# Altium integrated library Analog Devices Operational Amplifiers.IntLib: 2102 symbols (part 37 of 70)
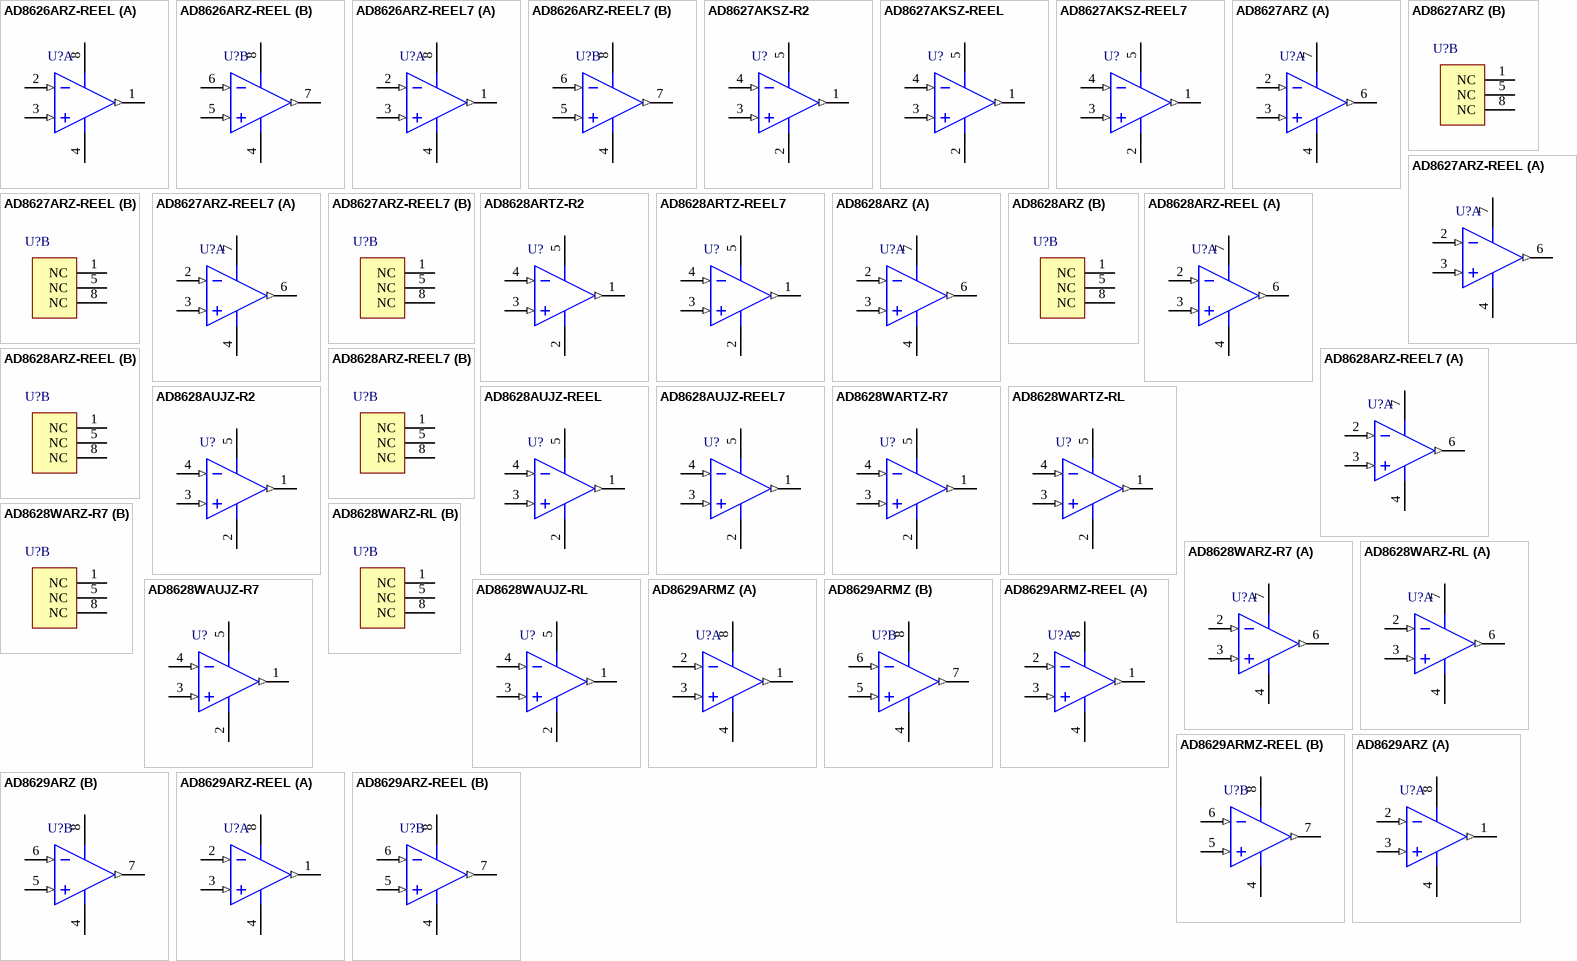
[diagram p150: symbols AD8626ARZ-REEL to AD8629ARZ-REEL]

## AD8626ARZ-REEL
designator U?
Double Channel Very Low Input Bias Current Operational Amplifier, 5 MHz BW, 5 V/us SR, Industrial, 8-pin SOIC (R-8), Reel; Generic Part Number: AD8626; Manufacturer: Analog Devices; PartNumber: AD8626ARZ-REEL; Amplifiers Per Package: 2; Input Bias Current: 250fA; Input Offset Voltage: 50uV; Iq/Amp: 850uA; Slew Rate: 5V/us; Small Signal Bandwidth: 5MHz; V Span Max: 26V; V Span Min: 5V; DatasheetVersion: Rev. E; PackageVersion: 060506-A; PackageReference: R-8; PackageDescription: 8-Pin Standard Small Outline Package, Body 3.9 x 4.9 mm, Pitch 1.27 mm; Supplier 1: Digi-Key; Supplier Part Number 1: AD8626ARZ-REEL-ND; Supplier 2: Newark; Supplier Part Number 2: 59K6987; Mounting Technology: Surface Mount; Code_JEDEC: MS-012-AA; ComponentLink1Description: Manufacturer URL; ComponentLink1URL: http://www.analog.com/en/index.html; ComponentLink2Description: Datasheet; ComponentLink2URL: http://www.analog.com/static/imported-files/data_sheets/AD8625_8626_8627.pdf; ComponentLink3Description: Package Specification; ComponentLink3URL: http://www.analog.com/static/imported-files/packages/PKG_PDF/SOIC_Narrow%20(R)/R_8.pdf
footprint ADI-R-8_N (SOIC, 8-Leads, Body 4.9x3.9mm, Pitch 1.27mm, IPC Medium Density)
footprint ADI-R-8_L (SOIC, 8-Leads, Body 4.9x3.9mm, Pitch 1.27mm, IPC High Density)
footprint ADI-R-8_M (SOIC, 8-Leads, Body 4.9x3.9mm, Pitch 1.27mm, IPC Low Density)
pins on every part: 4 -V (power), 8 +V (power)
part A pins: 1 OUT A (out), 2 -IN A (in), 3 +IN A (in)
part B pins: 5 +IN B (in), 6 -IN B (in), 7 OUT B (out)

## AD8626ARZ-REEL7
designator U?
Double Channel Very Low Input Bias Current Operational Amplifier, 5 MHz BW, 5 V/us SR, Industrial, 8-pin SOIC (R-8), Reel; Generic Part Number: AD8626; Manufacturer: Analog Devices; PartNumber: AD8626ARZ-REEL7; Amplifiers Per Package: 2; Input Bias Current: 250fA; Input Offset Voltage: 50uV; Iq/Amp: 850uA; Slew Rate: 5V/us; Small Signal Bandwidth: 5MHz; V Span Max: 26V; V Span Min: 5V; DatasheetVersion: Rev. E; PackageVersion: 060506-A; PackageReference: R-8; PackageDescription: 8-Pin Standard Small Outline Package, Body 3.9 x 4.9 mm, Pitch 1.27 mm; Supplier 1: Digi-Key; Supplier Part Number 1: AD8626ARZ-REEL7TR-ND; Supplier 2: Digi-Key; Supplier Part Number 2: AD8626ARZ-REEL7CT-ND; Supplier 3: Digi-Key; Supplier Part Number 3: AD8626ARZ-REEL7DKR-ND; Mounting Technology: Surface Mount; Code_JEDEC: MS-012-AA; ComponentLink1Description: Manufacturer URL; ComponentLink1URL: http://www.analog.com/en/index.html; ComponentLink2Description: Datasheet; ComponentLink2URL: http://www.analog.com/static/imported-files/data_sheets/AD8625_8626_8627.pdf; ComponentLink3Description: Package Specification; ComponentLink3URL: http://www.analog.com/static/imported-files/packages/PKG_PDF/SOIC_Narrow%20(R)/R_8.pdf
footprint ADI-R-8_N (SOIC, 8-Leads, Body 4.9x3.9mm, Pitch 1.27mm, IPC Medium Density)
footprint ADI-R-8_L (SOIC, 8-Leads, Body 4.9x3.9mm, Pitch 1.27mm, IPC High Density)
footprint ADI-R-8_M (SOIC, 8-Leads, Body 4.9x3.9mm, Pitch 1.27mm, IPC Low Density)
pins on every part: 4 -V (power), 8 +V (power)
part A pins: 1 OUT A (out), 2 -IN A (in), 3 +IN A (in)
part B pins: 5 +IN B (in), 6 -IN B (in), 7 OUT B (out)

## AD8627AKSZ-R2
designator U?
Single Channel Very Low Input Bias Current Operational Amplifier, 5 MHz BW, 5 V/us SR, Industrial, 5-pin SOT23 (KS-5), Reel; Generic Part Number: AD8627; Manufacturer: Analog Devices; PartNumber: AD8627AKSZ-R2; Amplifiers Per Package: 1; Input Bias Current: 250fA; Input Offset Voltage: 50uV; Iq/Amp: 850uA; Slew Rate: 5V/us; Small Signal Bandwidth: 5MHz; V Span Max: 26V; V Span Min: 5V; DatasheetVersion: Rev. E; PackageVersion: 072809-A; PackageReference: KS-5; PackageDescription: 5-Pin Thin Shrink Small Outline Transistor Package, Body 2 x 1.25 mm, Pitch 0.65 mm; Supplier 1: Digi-Key; Supplier Part Number 1: AD8627AKSZ-R2TR-ND; Supplier 2: Digi-Key; Supplier Part Number 2: AD8627AKSZ-R2CT-ND; Supplier 3: Digi-Key; Supplier Part Number 3: AD8627AKSZ-R2DKR-ND; Supplier 4: Farnell; Supplier Part Number 4: 1838871; Supplier 5: Newark; Supplier Part Number 5: 19M8933; Mounting Technology: Surface Mount; Code_JEDEC: MO-203-AA; ComponentLink1Description: Manufacturer URL; ComponentLink1URL: http://www.analog.com/en/index.html; ComponentLink2Description: Datasheet; ComponentLink2URL: http://www.analog.com/static/imported-files/data_sheets/AD8625_8626_8627.pdf; ComponentLink3Description: Package Specification; ComponentLink3URL: http://www.analog.com/static/imported-files/packages/PKG_PDF/SC70(KS)/KS_5.pdf; ComponentLink4Description: Reference Circuit; ComponentLink4URL: http://www.analog.com/en/all-operational-amplifiers-op-amps/operational-amplifiers-op-amps/ad8627/products/product.html#product-recommendations
footprint ADI-KS-5_N (SOT23, 5-Leads, Body 2x1.25mm, Pitch 0.65mm, IPC Medium Density)
footprint ADI-KS-5_L (SOT23, 5-Leads, Body 2x1.25mm, Pitch 0.65mm, IPC High Density)
footprint ADI-KS-5_M (SOT23, 5-Leads, Body 2x1.25mm, Pitch 0.65mm, IPC Low Density)
pins: 1 OUT A (out), 2 -V (power), 3 +IN (in), 4 -IN (in), 5 +V (power)

## AD8627AKSZ-REEL
designator U?
Single Channel Very Low Input Bias Current Operational Amplifier, 5 MHz BW, 5 V/us SR, Industrial, 5-pin SOT23 (KS-5), Reel; Generic Part Number: AD8627; Manufacturer: Analog Devices; PartNumber: AD8627AKSZ-REEL; Amplifiers Per Package: 1; Input Bias Current: 250fA; Input Offset Voltage: 50uV; Iq/Amp: 850uA; Slew Rate: 5V/us; Small Signal Bandwidth: 5MHz; V Span Max: 26V; V Span Min: 5V; DatasheetVersion: Rev. E; PackageVersion: 072809-A; PackageReference: KS-5; PackageDescription: 5-Pin Thin Shrink Small Outline Transistor Package, Body 2 x 1.25 mm, Pitch 0.65 mm; Supplier 1: Digi-Key; Supplier Part Number 1: AD8627AKSZ-REEL-ND; Supplier 2: Newark; Supplier Part Number 2: 59K6989; Mounting Technology: Surface Mount; Code_JEDEC: MO-203-AA; ComponentLink1Description: Manufacturer URL; ComponentLink1URL: http://www.analog.com/en/index.html; ComponentLink2Description: Datasheet; ComponentLink2URL: http://www.analog.com/static/imported-files/data_sheets/AD8625_8626_8627.pdf; ComponentLink3Description: Package Specification; ComponentLink3URL: http://www.analog.com/static/imported-files/packages/PKG_PDF/SC70(KS)/KS_5.pdf; ComponentLink4Description: Reference Circuit; ComponentLink4URL: http://www.analog.com/en/all-operational-amplifiers-op-amps/operational-amplifiers-op-amps/ad8627/products/product.html#product-recommendations
footprint ADI-KS-5_N (SOT23, 5-Leads, Body 2x1.25mm, Pitch 0.65mm, IPC Medium Density)
footprint ADI-KS-5_L (SOT23, 5-Leads, Body 2x1.25mm, Pitch 0.65mm, IPC High Density)
footprint ADI-KS-5_M (SOT23, 5-Leads, Body 2x1.25mm, Pitch 0.65mm, IPC Low Density)
pins: 1 OUT A (out), 2 -V (power), 3 +IN (in), 4 -IN (in), 5 +V (power)

## AD8627AKSZ-REEL7
designator U?
Single Channel Very Low Input Bias Current Operational Amplifier, 5 MHz BW, 5 V/us SR, Industrial, 5-pin SOT23 (KS-5), Reel; Generic Part Number: AD8627; Manufacturer: Analog Devices; PartNumber: AD8627AKSZ-REEL7; Amplifiers Per Package: 1; Input Bias Current: 250fA; Input Offset Voltage: 50uV; Iq/Amp: 850uA; Slew Rate: 5V/us; Small Signal Bandwidth: 5MHz; V Span Max: 26V; V Span Min: 5V; DatasheetVersion: Rev. E; PackageVersion: 072809-A; PackageReference: KS-5; PackageDescription: 5-Pin Thin Shrink Small Outline Transistor Package, Body 2 x 1.25 mm, Pitch 0.65 mm; Supplier 1: Digi-Key; Supplier Part Number 1: AD8627AKSZ-REEL7TR-ND; Supplier 2: Digi-Key; Supplier Part Number 2: AD8627AKSZ-REEL7CT-ND; Supplier 3: Digi-Key; Supplier Part Number 3: AD8627AKSZ-REEL7DKR-ND; Supplier 4: Farnell; Supplier Part Number 4: 1843970; Supplier 5: Newark; Supplier Part Number 5: 59K6990; Mounting Technology: Surface Mount; Code_JEDEC: MO-203-AA; ComponentLink1Description: Manufacturer URL; ComponentLink1URL: http://www.analog.com/en/index.html; ComponentLink2Description: Datasheet; ComponentLink2URL: http://www.analog.com/static/imported-files/data_sheets/AD8625_8626_8627.pdf; ComponentLink3Description: Package Specification; ComponentLink3URL: http://www.analog.com/static/imported-files/packages/PKG_PDF/SC70(KS)/KS_5.pdf; ComponentLink4Description: Reference Circuit; ComponentLink4URL: http://www.analog.com/en/all-operational-amplifiers-op-amps/operational-amplifiers-op-amps/ad8627/products/product.html#product-recommendations
footprint ADI-KS-5_N (SOT23, 5-Leads, Body 2x1.25mm, Pitch 0.65mm, IPC Medium Density)
footprint ADI-KS-5_L (SOT23, 5-Leads, Body 2x1.25mm, Pitch 0.65mm, IPC High Density)
footprint ADI-KS-5_M (SOT23, 5-Leads, Body 2x1.25mm, Pitch 0.65mm, IPC Low Density)
pins: 1 OUT A (out), 2 -V (power), 3 +IN (in), 4 -IN (in), 5 +V (power)

## AD8627ARZ
designator U?
Single Channel Very Low Input Bias Current Operational Amplifier, 5 MHz BW, 5 V/us SR, Industrial, 8-pin SOIC (R-8), Tube; Generic Part Number: AD8627; Manufacturer: Analog Devices; PartNumber: AD8627ARZ; Amplifiers Per Package: 1; Input Bias Current: 250fA; Input Offset Voltage: 50uV; Iq/Amp: 850uA; Slew Rate: 5V/us; Small Signal Bandwidth: 5MHz; V Span Max: 26V; V Span Min: 5V; DatasheetVersion: Rev. E; PackageVersion: 060506-A; PackageReference: R-8; PackageDescription: 8-Pin Standard Small Outline Package, Body 3.9 x 4.9 mm, Pitch 1.27 mm; Supplier 1: Digi-Key; Supplier Part Number 1: AD8627ARZ-ND; Supplier 2: Farnell; Supplier Part Number 2: 1581955; Supplier 3: Newark; Supplier Part Number 3: 19M0979; Mounting Technology: Surface Mount; Code_JEDEC: MS-012-AA; ComponentLink1Description: Manufacturer URL; ComponentLink1URL: http://www.analog.com/en/index.html; ComponentLink2Description: Datasheet; ComponentLink2URL: http://www.analog.com/static/imported-files/data_sheets/AD8625_8626_8627.pdf; ComponentLink3Description: Package Specification; ComponentLink3URL: http://www.analog.com/static/imported-files/packages/PKG_PDF/SOIC_Narrow%20(R)/R_8.pdf; ComponentLink4Description: Reference Circuit; ComponentLink4URL: http://www.analog.com/en/all-operational-amplifiers-op-amps/operational-amplifiers-op-amps/ad8627/products/product.html#product-recommendations
footprint ADI-R-8_N (SOIC, 8-Leads, Body 4.9x3.9mm, Pitch 1.27mm, IPC Medium Density)
footprint ADI-R-8_L (SOIC, 8-Leads, Body 4.9x3.9mm, Pitch 1.27mm, IPC High Density)
footprint ADI-R-8_M (SOIC, 8-Leads, Body 4.9x3.9mm, Pitch 1.27mm, IPC Low Density)
part A pins: 2 -IN (in), 3 +IN (in), 4 -V (power), 6 OUT (out), 7 +V (power)
part B pins: 1 NC, 5 NC, 8 NC

## AD8627ARZ-REEL
designator U?
Single Channel Very Low Input Bias Current Operational Amplifier, 5 MHz BW, 5 V/us SR, Industrial, 8-pin SOIC (R-8), Reel; Generic Part Number: AD8627; Manufacturer: Analog Devices; PartNumber: AD8627ARZ-REEL; Amplifiers Per Package: 1; Input Bias Current: 250fA; Input Offset Voltage: 50uV; Iq/Amp: 850uA; Slew Rate: 5V/us; Small Signal Bandwidth: 5MHz; V Span Max: 26V; V Span Min: 5V; DatasheetVersion: Rev. E; PackageVersion: 060506-A; PackageReference: R-8; PackageDescription: 8-Pin Standard Small Outline Package, Body 3.9 x 4.9 mm, Pitch 1.27 mm; Supplier 1: Digi-Key; Supplier Part Number 1: AD8627ARZ-REEL-ND; Mounting Technology: Surface Mount; Code_JEDEC: MS-012-AA; ComponentLink1Description: Manufacturer URL; ComponentLink1URL: http://www.analog.com/en/index.html; ComponentLink2Description: Datasheet; ComponentLink2URL: http://www.analog.com/static/imported-files/data_sheets/AD8625_8626_8627.pdf; ComponentLink3Description: Package Specification; ComponentLink3URL: http://www.analog.com/static/imported-files/packages/PKG_PDF/SOIC_Narrow%20(R)/R_8.pdf; ComponentLink4Description: Reference Circuit; ComponentLink4URL: http://www.analog.com/en/all-operational-amplifiers-op-amps/operational-amplifiers-op-amps/ad8627/products/product.html#product-recommendations
footprint ADI-R-8_N (SOIC, 8-Leads, Body 4.9x3.9mm, Pitch 1.27mm, IPC Medium Density)
footprint ADI-R-8_L (SOIC, 8-Leads, Body 4.9x3.9mm, Pitch 1.27mm, IPC High Density)
footprint ADI-R-8_M (SOIC, 8-Leads, Body 4.9x3.9mm, Pitch 1.27mm, IPC Low Density)
part A pins: 2 -IN (in), 3 +IN (in), 4 -V (power), 6 OUT (out), 7 +V (power)
part B pins: 1 NC, 5 NC, 8 NC

## AD8627ARZ-REEL7
designator U?
Single Channel Very Low Input Bias Current Operational Amplifier, 5 MHz BW, 5 V/us SR, Industrial, 8-pin SOIC (R-8), Reel; Generic Part Number: AD8627; Manufacturer: Analog Devices; PartNumber: AD8627ARZ-REEL7; Amplifiers Per Package: 1; Input Bias Current: 250fA; Input Offset Voltage: 50uV; Iq/Amp: 850uA; Slew Rate: 5V/us; Small Signal Bandwidth: 5MHz; V Span Max: 26V; V Span Min: 5V; DatasheetVersion: Rev. E; PackageVersion: 060506-A; PackageReference: R-8; PackageDescription: 8-Pin Standard Small Outline Package, Body 3.9 x 4.9 mm, Pitch 1.27 mm; Supplier 1: Digi-Key; Supplier Part Number 1: AD8627ARZ-REEL7-ND; Mounting Technology: Surface Mount; Code_JEDEC: MS-012-AA; ComponentLink1Description: Manufacturer URL; ComponentLink1URL: http://www.analog.com/en/index.html; ComponentLink2Description: Datasheet; ComponentLink2URL: http://www.analog.com/static/imported-files/data_sheets/AD8625_8626_8627.pdf; ComponentLink3Description: Package Specification; ComponentLink3URL: http://www.analog.com/static/imported-files/packages/PKG_PDF/SOIC_Narrow%20(R)/R_8.pdf; ComponentLink4Description: Reference Circuit; ComponentLink4URL: http://www.analog.com/en/all-operational-amplifiers-op-amps/operational-amplifiers-op-amps/ad8627/products/product.html#product-recommendations
footprint ADI-R-8_N (SOIC, 8-Leads, Body 4.9x3.9mm, Pitch 1.27mm, IPC Medium Density)
footprint ADI-R-8_L (SOIC, 8-Leads, Body 4.9x3.9mm, Pitch 1.27mm, IPC High Density)
footprint ADI-R-8_M (SOIC, 8-Leads, Body 4.9x3.9mm, Pitch 1.27mm, IPC Low Density)
part A pins: 2 -IN (in), 3 +IN (in), 4 -V (power), 6 OUT (out), 7 +V (power)
part B pins: 1 NC, 5 NC, 8 NC

## AD8628ARTZ-R2
designator U?
Single Channel RRIO Operational Amplifier, 2.5 MHz BW, 1 V/us SR, Industrial, 5-pin SOT23 (RJ-5), Reel; Generic Part Number: AD8628; Manufacturer: Analog Devices; PartNumber: AD8628ARTZ-R2; Amplifiers Per Package: 1; Automotive Qualified: Yes; Input Bias Current: 30pA; Input Offset Voltage: 1uV; Iq/Amp: 1.1mA; Slew Rate: 1V/us; Small Signal Bandwidth: 2.5MHz; V Span Max: 6V; V Span Min: 2.7V; DatasheetVersion: Rev. I; PackageVersion: 121608-A; PackageReference: RJ-5; PackageDescription: 5-Pin Small Outline Transistor Package, Body 2.9 x 1.6 mm, Pitch 0.95 mm; Supplier 1: Digi-Key; Supplier Part Number 1: AD8628ARTZ-R2TR-ND; Supplier 2: Digi-Key; Supplier Part Number 2: AD8628ARTZ-R2CT-ND; Supplier 3: Digi-Key; Supplier Part Number 3: AD8628ARTZ-R2DKR-ND; Supplier 4: Farnell; Supplier Part Number 4: 1319476; Supplier 5: Newark; Supplier Part Number 5: 19M8934; Mounting Technology: Surface Mount; Code_JEDEC: MO-178-AA; ComponentLink1Description: Manufacturer URL; ComponentLink1URL: http://www.analog.com/en/index.html; ComponentLink2Description: Datasheet; ComponentLink2URL: http://www.analog.com/static/imported-files/data_sheets/AD8628_8629_8630.pdf; ComponentLink3Description: Package Specification; ComponentLink3URL: http://www.analog.com/static/imported-files/packages/PKG_PDF/SOT-23(RJ)/RJ_5.pdf; ComponentLink4Description: Reference Circuit; ComponentLink4URL: http://www.analog.com/en/all-operational-amplifiers-op-amps/operational-amplifiers-op-amps/ad8628/products/product.html#product-recommendations
footprint ADI-RJ-5_N (SOT-23, 5-Leads, Body 2.9x1.6mm, Pitch 0.95mm, IPC Medium Density)
footprint ADI-RJ-5_L (SOT-23, 5-Leads, Body 2.9x1.6mm, Pitch 0.95mm, IPC High Density)
footprint ADI-RJ-5_M (SOT-23, 5-Leads, Body 2.9x1.6mm, Pitch 0.95mm, IPC Low Density)
pins: 1 OUT (out), 2 -V (power), 3 +IN (in), 4 -IN (in), 5 +V (power)

## AD8628ARTZ-REEL7
designator U?
Single Channel RRIO Operational Amplifier, 2.5 MHz BW, 1 V/us SR, Industrial, 5-pin SOT23 (RJ-5), Reel; Generic Part Number: AD8628; Manufacturer: Analog Devices; PartNumber: AD8628ARTZ-REEL7; Amplifiers Per Package: 1; Automotive Qualified: Yes; Input Bias Current: 30pA; Input Offset Voltage: 1uV; Iq/Amp: 1.1mA; Slew Rate: 1V/us; Small Signal Bandwidth: 2.5MHz; V Span Max: 6V; V Span Min: 2.7V; DatasheetVersion: Rev. I; PackageVersion: 121608-A; PackageReference: RJ-5; PackageDescription: 5-Pin Small Outline Transistor Package, Body 2.9 x 1.6 mm, Pitch 0.95 mm; Supplier 1: Digi-Key; Supplier Part Number 1: AD8628ARTZ-REEL7TR-ND; Supplier 2: Digi-Key; Supplier Part Number 2: AD8628ARTZ-REEL7CT-ND; Supplier 3: Digi-Key; Supplier Part Number 3: AD8628ARTZ-REEL7DKR-ND; Supplier 4: Newark; Supplier Part Number 4: 59K6995; Mounting Technology: Surface Mount; Code_JEDEC: MO-178-AA; ComponentLink1Description: Manufacturer URL; ComponentLink1URL: http://www.analog.com/en/index.html; ComponentLink2Description: Datasheet; ComponentLink2URL: http://www.analog.com/static/imported-files/data_sheets/AD8628_8629_8630.pdf; ComponentLink3Description: Package Specification; ComponentLink3URL: http://www.analog.com/static/imported-files/packages/PKG_PDF/SOT-23(RJ)/RJ_5.pdf; ComponentLink4Description: Reference Circuit; ComponentLink4URL: http://www.analog.com/en/all-operational-amplifiers-op-amps/operational-amplifiers-op-amps/ad8628/products/product.html#product-recommendations
footprint ADI-RJ-5_N (SOT-23, 5-Leads, Body 2.9x1.6mm, Pitch 0.95mm, IPC Medium Density)
footprint ADI-RJ-5_L (SOT-23, 5-Leads, Body 2.9x1.6mm, Pitch 0.95mm, IPC High Density)
footprint ADI-RJ-5_M (SOT-23, 5-Leads, Body 2.9x1.6mm, Pitch 0.95mm, IPC Low Density)
pins: 1 OUT (out), 2 -V (power), 3 +IN (in), 4 -IN (in), 5 +V (power)

## AD8628ARZ
designator U?
Single Channel RRIO Operational Amplifier, 2.5 MHz BW, 1 V/us SR, Industrial, 8-pin SOIC (R-8), Tube; Generic Part Number: AD8628; Manufacturer: Analog Devices; PartNumber: AD8628ARZ; Amplifiers Per Package: 1; Automotive Qualified: Yes; Input Bias Current: 30pA; Input Offset Voltage: 1uV; Iq/Amp: 1.1mA; Slew Rate: 1V/us; Small Signal Bandwidth: 2.5MHz; V Span Max: 6V; V Span Min: 2.7V; DatasheetVersion: Rev. I; PackageVersion: 060506-A; PackageReference: R-8; PackageDescription: 8-Pin Standard Small Outline Package, Body 3.9 x 4.9 mm, Pitch 1.27 mm; Supplier 1: Digi-Key; Supplier Part Number 1: AD8628ARZ-ND; Supplier 2: Farnell; Supplier Part Number 2: 8621586; Supplier 3: Newark; Supplier Part Number 3: 19M0980; Mounting Technology: Surface Mount; Code_JEDEC: MS-012-AA; ComponentLink1Description: Manufacturer URL; ComponentLink1URL: http://www.analog.com/en/index.html; ComponentLink2Description: Datasheet; ComponentLink2URL: http://www.analog.com/static/imported-files/data_sheets/AD8628_8629_8630.pdf; ComponentLink3Description: Package Specification; ComponentLink3URL: http://www.analog.com/static/imported-files/packages/PKG_PDF/SOIC_Narrow%20(R)/R_8.pdf; ComponentLink4Description: Reference Circuit; ComponentLink4URL: http://www.analog.com/en/all-operational-amplifiers-op-amps/operational-amplifiers-op-amps/ad8628/products/product.html#product-recommendations
footprint ADI-R-8_N (SOIC, 8-Leads, Body 4.9x3.9mm, Pitch 1.27mm, IPC Medium Density)
footprint ADI-R-8_L (SOIC, 8-Leads, Body 4.9x3.9mm, Pitch 1.27mm, IPC High Density)
footprint ADI-R-8_M (SOIC, 8-Leads, Body 4.9x3.9mm, Pitch 1.27mm, IPC Low Density)
part A pins: 2 -IN (in), 3 +IN (in), 4 -V (power), 6 OUT (out), 7 +V (power)
part B pins: 1 NC, 5 NC, 8 NC

## AD8628ARZ-REEL
designator U?
Single Channel RRIO Operational Amplifier, 2.5 MHz BW, 1 V/us SR, Industrial, 8-pin SOIC (R-8), Reel; Generic Part Number: AD8628; Manufacturer: Analog Devices; PartNumber: AD8628ARZ-REEL; Amplifiers Per Package: 1; Automotive Qualified: Yes; Input Bias Current: 30pA; Input Offset Voltage: 1uV; Iq/Amp: 1.1mA; Slew Rate: 1V/us; Small Signal Bandwidth: 2.5MHz; V Span Max: 6V; V Span Min: 2.7V; DatasheetVersion: Rev. I; PackageVersion: 060506-A; PackageReference: R-8; PackageDescription: 8-Pin Standard Small Outline Package, Body 3.9 x 4.9 mm, Pitch 1.27 mm; Supplier 1: Digi-Key; Supplier Part Number 1: AD8628ARZ-REELTR-ND; Supplier 2: Digi-Key; Supplier Part Number 2: AD8628ARZ-REELCT-ND; Supplier 3: Digi-Key; Supplier Part Number 3: AD8628ARZ-REELDKR-ND; Supplier 4: Newark; Supplier Part Number 4: 59K6998; Mounting Technology: Surface Mount; Code_JEDEC: MS-012-AA; ComponentLink1Description: Manufacturer URL; ComponentLink1URL: http://www.analog.com/en/index.html; ComponentLink2Description: Datasheet; ComponentLink2URL: http://www.analog.com/static/imported-files/data_sheets/AD8628_8629_8630.pdf; ComponentLink3Description: Package Specification; ComponentLink3URL: http://www.analog.com/static/imported-files/packages/PKG_PDF/SOIC_Narrow%20(R)/R_8.pdf; ComponentLink4Description: Reference Circuit; ComponentLink4URL: http://www.analog.com/en/all-operational-amplifiers-op-amps/operational-amplifiers-op-amps/ad8628/products/product.html#product-recommendations
footprint ADI-R-8_N (SOIC, 8-Leads, Body 4.9x3.9mm, Pitch 1.27mm, IPC Medium Density)
footprint ADI-R-8_L (SOIC, 8-Leads, Body 4.9x3.9mm, Pitch 1.27mm, IPC High Density)
footprint ADI-R-8_M (SOIC, 8-Leads, Body 4.9x3.9mm, Pitch 1.27mm, IPC Low Density)
part A pins: 2 -IN (in), 3 +IN (in), 4 -V (power), 6 OUT (out), 7 +V (power)
part B pins: 1 NC, 5 NC, 8 NC

## AD8628ARZ-REEL7
designator U?
Single Channel RRIO Operational Amplifier, 2.5 MHz BW, 1 V/us SR, Industrial, 8-pin SOIC (R-8), Reel; Generic Part Number: AD8628; Manufacturer: Analog Devices; PartNumber: AD8628ARZ-REEL7; Amplifiers Per Package: 1; Automotive Qualified: Yes; Input Bias Current: 30pA; Input Offset Voltage: 1uV; Iq/Amp: 1.1mA; Slew Rate: 1V/us; Small Signal Bandwidth: 2.5MHz; V Span Max: 6V; V Span Min: 2.7V; DatasheetVersion: Rev. I; PackageVersion: 060506-A; PackageReference: R-8; PackageDescription: 8-Pin Standard Small Outline Package, Body 3.9 x 4.9 mm, Pitch 1.27 mm; Supplier 1: Digi-Key; Supplier Part Number 1: AD8628ARZ-REEL7-ND; Supplier 2: Newark; Supplier Part Number 2: 59K6999; Mounting Technology: Surface Mount; Code_JEDEC: MS-012-AA; ComponentLink1Description: Manufacturer URL; ComponentLink1URL: http://www.analog.com/en/index.html; ComponentLink2Description: Datasheet; ComponentLink2URL: http://www.analog.com/static/imported-files/data_sheets/AD8628_8629_8630.pdf; ComponentLink3Description: Package Specification; ComponentLink3URL: http://www.analog.com/static/imported-files/packages/PKG_PDF/SOIC_Narrow%20(R)/R_8.pdf; ComponentLink4Description: Reference Circuit; ComponentLink4URL: http://www.analog.com/en/all-operational-amplifiers-op-amps/operational-amplifiers-op-amps/ad8628/products/product.html#product-recommendations
footprint ADI-R-8_N (SOIC, 8-Leads, Body 4.9x3.9mm, Pitch 1.27mm, IPC Medium Density)
footprint ADI-R-8_L (SOIC, 8-Leads, Body 4.9x3.9mm, Pitch 1.27mm, IPC High Density)
footprint ADI-R-8_M (SOIC, 8-Leads, Body 4.9x3.9mm, Pitch 1.27mm, IPC Low Density)
part A pins: 2 -IN (in), 3 +IN (in), 4 -V (power), 6 OUT (out), 7 +V (power)
part B pins: 1 NC, 5 NC, 8 NC

## AD8628AUJZ-R2
designator U?
Single Channel RRIO Operational Amplifier, 2.5 MHz BW, 1 V/us SR, Industrial, 5-pin SOT23 (UJ-5), Reel; Generic Part Number: AD8628; Manufacturer: Analog Devices; PartNumber: AD8628AUJZ-R2; Amplifiers Per Package: 1; Automotive Qualified: Yes; Input Bias Current: 30pA; Input Offset Voltage: 1uV; Iq/Amp: 1.1mA; Slew Rate: 1V/us; Small Signal Bandwidth: 2.5MHz; V Span Max: 6V; V Span Min: 2.7V; DatasheetVersion: Rev. I; PackageVersion: 100708-A; PackageReference: UJ-5; PackageDescription: 5-Pin Thin Small Outline Transistor Package, Body 2.9 x 1.6 mm, Pitch 0.95 mm; Supplier 1: Digi-Key; Supplier Part Number 1: AD8628AUJZ-R2TR-ND; Supplier 2: Digi-Key; Supplier Part Number 2: AD8628AUJZ-R2CT-ND; Supplier 3: Digi-Key; Supplier Part Number 3: AD8628AUJZ-R2DKR-ND; Supplier 4: Farnell; Supplier Part Number 4: 1701158; Supplier 5: Newark; Supplier Part Number 5: 59K7002; Mounting Technology: Surface Mount; Code_JEDEC: MO-193-AB; ComponentLink1Description: Manufacturer URL; ComponentLink1URL: http://www.analog.com/en/index.html; ComponentLink2Description: Datasheet; ComponentLink2URL: http://www.analog.com/static/imported-files/data_sheets/AD8628_8629_8630.pdf; ComponentLink3Description: Package Specification; ComponentLink3URL: http:/www.analog.com/static/imported-files/packages/PKG_PDF/TSOT(UJ)/UJ_5.pdf; ComponentLink4Description: Reference Circuit; ComponentLink4URL: http://www.analog.com/en/all-operational-amplifiers-op-amps/operational-amplifiers-op-amps/ad8628/products/product.html#product-recommendations
footprint ADI-UJ-5_N (SOT23, 5-Leads, Body 2.9x1.6mm, Pitch 0.95mm, IPC Medium Density)
footprint ADI-UJ-5_L (SOT23, 5-Leads, Body 2.9x1.6mm, Pitch 0.95mm, IPC High Density)
footprint ADI-UJ-5_M (SOT23, 5-Leads, Body 2.9x1.6mm, Pitch 0.95mm, IPC Low Density)
pins: 1 OUT (out), 2 -V (power), 3 +IN (in), 4 -IN (in), 5 +V (power)

## AD8628AUJZ-REEL
designator U?
Single Channel RRIO Operational Amplifier, 2.5 MHz BW, 1 V/us SR, Industrial, 5-pin SOT23 (UJ-5), Reel; Generic Part Number: AD8628; Manufacturer: Analog Devices; PartNumber: AD8628AUJZ-REEL; Amplifiers Per Package: 1; Automotive Qualified: Yes; Input Bias Current: 30pA; Input Offset Voltage: 1uV; Iq/Amp: 1.1mA; Slew Rate: 1V/us; Small Signal Bandwidth: 2.5MHz; V Span Max: 6V; V Span Min: 2.7V; DatasheetVersion: Rev. I; PackageVersion: 100708-A; PackageReference: UJ-5; PackageDescription: 5-Pin Thin Small Outline Transistor Package, Body 2.9 x 1.6 mm, Pitch 0.95 mm; Supplier 1: Digi-Key; Supplier Part Number 1: AD8628AUJZ-REEL-ND; Supplier 2: Newark; Supplier Part Number 2: 59K7000; Mounting Technology: Surface Mount; Code_JEDEC: MO-193-AB; ComponentLink1Description: Manufacturer URL; ComponentLink1URL: http://www.analog.com/en/index.html; ComponentLink2Description: Datasheet; ComponentLink2URL: http://www.analog.com/static/imported-files/data_sheets/AD8628_8629_8630.pdf; ComponentLink3Description: Package Specification; ComponentLink3URL: http:/www.analog.com/static/imported-files/packages/PKG_PDF/TSOT(UJ)/UJ_5.pdf; ComponentLink4Description: Reference Circuit; ComponentLink4URL: http://www.analog.com/en/all-operational-amplifiers-op-amps/operational-amplifiers-op-amps/ad8628/products/product.html#product-recommendations
footprint ADI-UJ-5_N (SOT23, 5-Leads, Body 2.9x1.6mm, Pitch 0.95mm, IPC Medium Density)
footprint ADI-UJ-5_L (SOT23, 5-Leads, Body 2.9x1.6mm, Pitch 0.95mm, IPC High Density)
footprint ADI-UJ-5_M (SOT23, 5-Leads, Body 2.9x1.6mm, Pitch 0.95mm, IPC Low Density)
pins: 1 OUT (out), 2 -V (power), 3 +IN (in), 4 -IN (in), 5 +V (power)

## AD8628AUJZ-REEL7
designator U?
Single Channel RRIO Operational Amplifier, 2.5 MHz BW, 1 V/us SR, Industrial, 5-pin SOT23 (UJ-5), Reel; Generic Part Number: AD8628; Manufacturer: Analog Devices; PartNumber: AD8628AUJZ-REEL7; Amplifiers Per Package: 1; Automotive Qualified: Yes; Input Bias Current: 30pA; Input Offset Voltage: 1uV; Iq/Amp: 1.1mA; Slew Rate: 1V/us; Small Signal Bandwidth: 2.5MHz; V Span Max: 6V; V Span Min: 2.7V; DatasheetVersion: Rev. I; PackageVersion: 100708-A; PackageReference: UJ-5; PackageDescription: 5-Pin Thin Small Outline Transistor Package, Body 2.9 x 1.6 mm, Pitch 0.95 mm; Supplier 1: Digi-Key; Supplier Part Number 1: AD8628AUJZ-REEL7TR-ND; Supplier 2: Digi-Key; Supplier Part Number 2: AD8628AUJZ-REEL7CT-ND; Supplier 3: Digi-Key; Supplier Part Number 3: AD8628AUJZ-REEL7DKR-ND; Supplier 4: Newark; Supplier Part Number 4: 59K7001; Mounting Technology: Surface Mount; Code_JEDEC: MO-193-AB; ComponentLink1Description: Manufacturer URL; ComponentLink1URL: http://www.analog.com/en/index.html; ComponentLink2Description: Datasheet; ComponentLink2URL: http://www.analog.com/static/imported-files/data_sheets/AD8628_8629_8630.pdf; ComponentLink3Description: Package Specification; ComponentLink3URL: http:/www.analog.com/static/imported-files/packages/PKG_PDF/TSOT(UJ)/UJ_5.pdf; ComponentLink4Description: Reference Circuit; ComponentLink4URL: http://www.analog.com/en/all-operational-amplifiers-op-amps/operational-amplifiers-op-amps/ad8628/products/product.html#product-recommendations
footprint ADI-UJ-5_N (SOT23, 5-Leads, Body 2.9x1.6mm, Pitch 0.95mm, IPC Medium Density)
footprint ADI-UJ-5_L (SOT23, 5-Leads, Body 2.9x1.6mm, Pitch 0.95mm, IPC High Density)
footprint ADI-UJ-5_M (SOT23, 5-Leads, Body 2.9x1.6mm, Pitch 0.95mm, IPC Low Density)
pins: 1 OUT (out), 2 -V (power), 3 +IN (in), 4 -IN (in), 5 +V (power)

## AD8628WARTZ-R7
designator U?
Single Channel RRIO Operational Amplifier, 2.5 MHz BW, 1 V/us SR, Automotive, 5-pin SOT23 (RJ-5), Reel; Generic Part Number: AD8628; Manufacturer: Analog Devices; PartNumber: AD8628WARTZ-R7; Amplifiers Per Package: 1; Automotive Qualified: Yes; Input Bias Current: 30pA; Input Offset Voltage: 1uV; Iq/Amp: 1.1mA; Slew Rate: 1V/us; Small Signal Bandwidth: 2.5MHz; V Span Max: 6V; V Span Min: 2.7V; DatasheetVersion: Rev. I; PackageVersion: 121608-A; PackageReference: RJ-5; PackageDescription: 5-Pin Small Outline Transistor Package, Body 2.9 x 1.6 mm, Pitch 0.95 mm; Supplier 1: Digi-Key; Supplier Part Number 1: AD8628WARTZ-R7TR-ND; Supplier 2: Digi-Key; Supplier Part Number 2: AD8628WARTZ-R7CT-ND; Supplier 3: Digi-Key; Supplier Part Number 3: AD8628WARTZ-R7DKR-ND; Supplier 4: Newark; Supplier Part Number 4: 74R6006; Mounting Technology: Surface Mount; Code_JEDEC: MO-178-AA; ComponentLink1Description: Manufacturer URL; ComponentLink1URL: http://www.analog.com/en/index.html; ComponentLink2Description: Datasheet; ComponentLink2URL: http://www.analog.com/static/imported-files/data_sheets/AD8628_8629_8630.pdf; ComponentLink3Description: Package Specification; ComponentLink3URL: http://www.analog.com/static/imported-files/packages/PKG_PDF/SOT-23(RJ)/RJ_5.pdf; ComponentLink4Description: Reference Circuit; ComponentLink4URL: http://www.analog.com/en/all-operational-amplifiers-op-amps/operational-amplifiers-op-amps/ad8628/products/product.html#product-recommendations
footprint ADI-RJ-5_N (SOT-23, 5-Leads, Body 2.9x1.6mm, Pitch 0.95mm, IPC Medium Density)
footprint ADI-RJ-5_L (SOT-23, 5-Leads, Body 2.9x1.6mm, Pitch 0.95mm, IPC High Density)
footprint ADI-RJ-5_M (SOT-23, 5-Leads, Body 2.9x1.6mm, Pitch 0.95mm, IPC Low Density)
pins: 1 OUT (out), 2 -V (power), 3 +IN (in), 4 -IN (in), 5 +V (power)

## AD8628WARTZ-RL
designator U?
Single Channel RRIO Operational Amplifier, 2.5 MHz BW, 1 V/us SR, Automotive, 5-pin SOT23 (RJ-5), Reel; Generic Part Number: AD8628; Manufacturer: Analog Devices; PartNumber: AD8628WARTZ-RL; Amplifiers Per Package: 1; Automotive Qualified: Yes; Input Bias Current: 30pA; Input Offset Voltage: 1uV; Iq/Amp: 1.1mA; Slew Rate: 1V/us; Small Signal Bandwidth: 2.5MHz; V Span Max: 6V; V Span Min: 2.7V; DatasheetVersion: Rev. I; PackageVersion: 121608-A; PackageReference: RJ-5; PackageDescription: 5-Pin Small Outline Transistor Package, Body 2.9 x 1.6 mm, Pitch 0.95 mm; Supplier 1: Digi-Key; Supplier Part Number 1: AD8628WARTZ-RL-ND; Supplier 2: Newark; Supplier Part Number 2: 74R6005; Mounting Technology: Surface Mount; Code_JEDEC: MO-178-AA; ComponentLink1Description: Manufacturer URL; ComponentLink1URL: http://www.analog.com/en/index.html; ComponentLink2Description: Datasheet; ComponentLink2URL: http://www.analog.com/static/imported-files/data_sheets/AD8628_8629_8630.pdf; ComponentLink3Description: Package Specification; ComponentLink3URL: http://www.analog.com/static/imported-files/packages/PKG_PDF/SOT-23(RJ)/RJ_5.pdf; ComponentLink4Description: Reference Circuit; ComponentLink4URL: http://www.analog.com/en/all-operational-amplifiers-op-amps/operational-amplifiers-op-amps/ad8628/products/product.html#product-recommendations
footprint ADI-RJ-5_N (SOT-23, 5-Leads, Body 2.9x1.6mm, Pitch 0.95mm, IPC Medium Density)
footprint ADI-RJ-5_L (SOT-23, 5-Leads, Body 2.9x1.6mm, Pitch 0.95mm, IPC High Density)
footprint ADI-RJ-5_M (SOT-23, 5-Leads, Body 2.9x1.6mm, Pitch 0.95mm, IPC Low Density)
pins: 1 OUT (out), 2 -V (power), 3 +IN (in), 4 -IN (in), 5 +V (power)

## AD8628WARZ-R7
designator U?
Single Channel RRIO Operational Amplifier, 2.5 MHz BW, 1 V/us SR, Automotive, 8-pin SOIC (R-8), Reel; Generic Part Number: AD8628; Manufacturer: Analog Devices; PartNumber: AD8628WARZ-R7; Amplifiers Per Package: 1; Automotive Qualified: Yes; Input Bias Current: 30pA; Input Offset Voltage: 1uV; Iq/Amp: 1.1mA; Slew Rate: 1V/us; Small Signal Bandwidth: 2.5MHz; V Span Max: 6V; V Span Min: 2.7V; DatasheetVersion: Rev. I; PackageVersion: 060506-A; PackageReference: R-8; PackageDescription: 8-Pin Standard Small Outline Package, Body 3.9 x 4.9 mm, Pitch 1.27 mm; Supplier 1: Digi-Key; Supplier Part Number 1: AD8628WARZ-R7TR-ND; Supplier 2: Digi-Key; Supplier Part Number 2: AD8628WARZ-R7CT-ND; Supplier 3: Digi-Key; Supplier Part Number 3: AD8628WARZ-R7DKR-ND; Mounting Technology: Surface Mount; Code_JEDEC: MS-012-AA; ComponentLink1Description: Manufacturer URL; ComponentLink1URL: http://www.analog.com/en/index.html; ComponentLink2Description: Datasheet; ComponentLink2URL: http://www.analog.com/static/imported-files/data_sheets/AD8628_8629_8630.pdf; ComponentLink3Description: Package Specification; ComponentLink3URL: http://www.analog.com/static/imported-files/packages/PKG_PDF/SOIC_Narrow%20(R)/R_8.pdf; ComponentLink4Description: Reference Circuit; ComponentLink4URL: http://www.analog.com/en/all-operational-amplifiers-op-amps/operational-amplifiers-op-amps/ad8628/products/product.html#product-recommendations
footprint ADI-R-8_N (SOIC, 8-Leads, Body 4.9x3.9mm, Pitch 1.27mm, IPC Medium Density)
footprint ADI-R-8_L (SOIC, 8-Leads, Body 4.9x3.9mm, Pitch 1.27mm, IPC High Density)
footprint ADI-R-8_M (SOIC, 8-Leads, Body 4.9x3.9mm, Pitch 1.27mm, IPC Low Density)
part A pins: 2 -IN (in), 3 +IN (in), 4 -V (power), 6 OUT (out), 7 +V (power)
part B pins: 1 NC, 5 NC, 8 NC

## AD8628WARZ-RL
designator U?
Single Channel RRIO Operational Amplifier, 2.5 MHz BW, 1 V/us SR, Automotive, 8-pin SOIC (R-8), Reel; Generic Part Number: AD8628; Manufacturer: Analog Devices; PartNumber: AD8628WARZ-RL; Amplifiers Per Package: 1; Automotive Qualified: Yes; Input Bias Current: 30pA; Input Offset Voltage: 1uV; Iq/Amp: 1.1mA; Slew Rate: 1V/us; Small Signal Bandwidth: 2.5MHz; V Span Max: 6V; V Span Min: 2.7V; DatasheetVersion: Rev. I; PackageVersion: 060506-A; PackageReference: R-8; PackageDescription: 8-Pin Standard Small Outline Package, Body 3.9 x 4.9 mm, Pitch 1.27 mm; Supplier 1: Digi-Key; Supplier Part Number 1: AD8628WARZ-RL-ND; Mounting Technology: Surface Mount; Code_JEDEC: MS-012-AA; ComponentLink1Description: Manufacturer URL; ComponentLink1URL: http://www.analog.com/en/index.html; ComponentLink2Description: Datasheet; ComponentLink2URL: http://www.analog.com/static/imported-files/data_sheets/AD8628_8629_8630.pdf; ComponentLink3Description: Package Specification; ComponentLink3URL: http://www.analog.com/static/imported-files/packages/PKG_PDF/SOIC_Narrow%20(R)/R_8.pdf; ComponentLink4Description: Reference Circuit; ComponentLink4URL: http://www.analog.com/en/all-operational-amplifiers-op-amps/operational-amplifiers-op-amps/ad8628/products/product.html#product-recommendations
footprint ADI-R-8_N (SOIC, 8-Leads, Body 4.9x3.9mm, Pitch 1.27mm, IPC Medium Density)
footprint ADI-R-8_L (SOIC, 8-Leads, Body 4.9x3.9mm, Pitch 1.27mm, IPC High Density)
footprint ADI-R-8_M (SOIC, 8-Leads, Body 4.9x3.9mm, Pitch 1.27mm, IPC Low Density)
part A pins: 2 -IN (in), 3 +IN (in), 4 -V (power), 6 OUT (out), 7 +V (power)
part B pins: 1 NC, 5 NC, 8 NC

## AD8628WAUJZ-R7
designator U?
Single Channel RRIO Operational Amplifier, 2.5 MHz BW, 1 V/us SR, Automotive, 5-pin SOT23 (UJ-5), Reel; Generic Part Number: AD8628; Manufacturer: Analog Devices; PartNumber: AD8628WAUJZ-R7; Amplifiers Per Package: 1; Automotive Qualified: Yes; Input Bias Current: 30pA; Input Offset Voltage: 1uV; Iq/Amp: 1.1mA; Slew Rate: 1V/us; Small Signal Bandwidth: 2.5MHz; V Span Max: 6V; V Span Min: 2.7V; DatasheetVersion: Rev. I; PackageVersion: 100708-A; PackageReference: UJ-5; PackageDescription: 5-Pin Thin Small Outline Transistor Package, Body 2.9 x 1.6 mm, Pitch 0.95 mm; Supplier 1: Digi-Key; Supplier Part Number 1: AD8628WAUJZ-R7TR-ND; Supplier 2: Digi-Key; Supplier Part Number 2: AD8628WAUJZ-R7CT-ND; Supplier 3: Digi-Key; Supplier Part Number 3: AD8628WAUJZ-R7DKR-ND; Mounting Technology: Surface Mount; Code_JEDEC: MO-193-AB; ComponentLink1Description: Manufacturer URL; ComponentLink1URL: http://www.analog.com/en/index.html; ComponentLink2Description: Datasheet; ComponentLink2URL: http://www.analog.com/static/imported-files/data_sheets/AD8628_8629_8630.pdf; ComponentLink3Description: Package Specification; ComponentLink3URL: http:/www.analog.com/static/imported-files/packages/PKG_PDF/TSOT(UJ)/UJ_5.pdf; ComponentLink4Description: Reference Circuit; ComponentLink4URL: http://www.analog.com/en/all-operational-amplifiers-op-amps/operational-amplifiers-op-amps/ad8628/products/product.html#product-recommendations
footprint ADI-UJ-5_N (SOT23, 5-Leads, Body 2.9x1.6mm, Pitch 0.95mm, IPC Medium Density)
footprint ADI-UJ-5_L (SOT23, 5-Leads, Body 2.9x1.6mm, Pitch 0.95mm, IPC High Density)
footprint ADI-UJ-5_M (SOT23, 5-Leads, Body 2.9x1.6mm, Pitch 0.95mm, IPC Low Density)
pins: 1 OUT (out), 2 -V (power), 3 +IN (in), 4 -IN (in), 5 +V (power)

## AD8628WAUJZ-RL
designator U?
Single Channel RRIO Operational Amplifier, 2.5 MHz BW, 1 V/us SR, Automotive, 5-pin SOT23 (UJ-5), Reel; Generic Part Number: AD8628; Manufacturer: Analog Devices; PartNumber: AD8628WAUJZ-RL; Amplifiers Per Package: 1; Automotive Qualified: Yes; Input Bias Current: 30pA; Input Offset Voltage: 1uV; Iq/Amp: 1.1mA; Slew Rate: 1V/us; Small Signal Bandwidth: 2.5MHz; V Span Max: 6V; V Span Min: 2.7V; DatasheetVersion: Rev. I; PackageVersion: 100708-A; PackageReference: UJ-5; PackageDescription: 5-Pin Thin Small Outline Transistor Package, Body 2.9 x 1.6 mm, Pitch 0.95 mm; Supplier 1: Digi-Key; Supplier Part Number 1: AD8628WAUJZ-RL-ND; Mounting Technology: Surface Mount; Code_JEDEC: MO-193-AB; ComponentLink1Description: Manufacturer URL; ComponentLink1URL: http://www.analog.com/en/index.html; ComponentLink2Description: Datasheet; ComponentLink2URL: http://www.analog.com/static/imported-files/data_sheets/AD8628_8629_8630.pdf; ComponentLink3Description: Package Specification; ComponentLink3URL: http:/www.analog.com/static/imported-files/packages/PKG_PDF/TSOT(UJ)/UJ_5.pdf; ComponentLink4Description: Reference Circuit; ComponentLink4URL: http://www.analog.com/en/all-operational-amplifiers-op-amps/operational-amplifiers-op-amps/ad8628/products/product.html#product-recommendations
footprint ADI-UJ-5_N (SOT23, 5-Leads, Body 2.9x1.6mm, Pitch 0.95mm, IPC Medium Density)
footprint ADI-UJ-5_L (SOT23, 5-Leads, Body 2.9x1.6mm, Pitch 0.95mm, IPC High Density)
footprint ADI-UJ-5_M (SOT23, 5-Leads, Body 2.9x1.6mm, Pitch 0.95mm, IPC Low Density)
pins: 1 OUT (out), 2 -V (power), 3 +IN (in), 4 -IN (in), 5 +V (power)

## AD8629ARMZ
designator U?
Double Channel RRIO Operational Amplifier, 2.5 MHz BW, 1 V/us SR, Industrial, 8-pin SOP (RM-8), Tube; Generic Part Number: AD8629; Manufacturer: Analog Devices; PartNumber: AD8629ARMZ; Amplifiers Per Package: 2; Automotive Qualified: Yes; Input Bias Current: 30pA; Input Offset Voltage: 1uV; Iq/Amp: 1.1mA; Slew Rate: 1V/us; Small Signal Bandwidth: 2.5MHz; V Span Max: 6V; V Span Min: 2.7V; DatasheetVersion: Rev. I; PackageReference: RM-8; PackageDescription: 8-Pin Mini Small Outline Package, Body 3 x 3 mm, Pitch 0.65 mm; Supplier 1: Digi-Key; Supplier Part Number 1: AD8629ARMZ-ND; Supplier 2: Newark; Supplier Part Number 2: 19P8311; Mounting Technology: Surface Mount; Code_JEDEC: MO-187-AA; ComponentLink1Description: Manufacturer URL; ComponentLink1URL: http://www.analog.com/en/index.html; ComponentLink2Description: Datasheet; ComponentLink2URL: http://www.analog.com/static/imported-files/data_sheets/AD8628_8629_8630.pdf; ComponentLink3Description: Package Specification; ComponentLink3URL: http://www.analog.com/static/imported-files/packages/PKG_PDF/MSOP%28RM%29/RM_8.pdf; ComponentLink4Description: Reference Circuit; ComponentLink4URL: http://www.analog.com/en/all-operational-amplifiers-op-amps/operational-amplifiers-op-amps/ad8629/products/product.html#product-recommendations
footprint ADI-RM-8_N (SOP, 8-Leads, Body 3x3mm, Pitch 0.65mm, IPC Medium Density)
footprint ADI-RM-8_L (SOP, 8-Leads, Body 3x3mm, Pitch 0.65mm, IPC High Density)
footprint ADI-RM-8_M (SOP, 8-Leads, Body 3x3mm, Pitch 0.65mm, IPC Low Density)
pins on every part: 4 -V (power), 8 +V (power)
part A pins: 1 OUT A (out), 2 -IN A (in), 3 +IN A (in)
part B pins: 5 +IN B (in), 6 -IN B (in), 7 OUT B (out)

## AD8629ARMZ-REEL
designator U?
Double Channel RRIO Operational Amplifier, 2.5 MHz BW, 1 V/us SR, Industrial, 8-pin SOP (RM-8), Reel; Generic Part Number: AD8629; Manufacturer: Analog Devices; PartNumber: AD8629ARMZ-REEL; Amplifiers Per Package: 2; Automotive Qualified: Yes; Input Bias Current: 30pA; Input Offset Voltage: 1uV; Iq/Amp: 1.1mA; Slew Rate: 1V/us; Small Signal Bandwidth: 2.5MHz; V Span Max: 6V; V Span Min: 2.7V; DatasheetVersion: Rev. I; PackageReference: RM-8; PackageDescription: 8-Pin Mini Small Outline Package, Body 3 x 3 mm, Pitch 0.65 mm; Supplier 1: Digi-Key; Supplier Part Number 1: AD8629ARMZ-REELTR-ND; Supplier 2: Digi-Key; Supplier Part Number 2: AD8629ARMZ-REELCT-ND; Supplier 3: Digi-Key; Supplier Part Number 3: AD8629ARMZ-REELDKR-ND; Supplier 4: Newark; Supplier Part Number 4: 59K7003; Mounting Technology: Surface Mount; Code_JEDEC: MO-187-AA; ComponentLink1Description: Manufacturer URL; ComponentLink1URL: http://www.analog.com/en/index.html; ComponentLink2Description: Datasheet; ComponentLink2URL: http://www.analog.com/static/imported-files/data_sheets/AD8628_8629_8630.pdf; ComponentLink3Description: Package Specification; ComponentLink3URL: http://www.analog.com/static/imported-files/packages/PKG_PDF/MSOP%28RM%29/RM_8.pdf; ComponentLink4Description: Reference Circuit; ComponentLink4URL: http://www.analog.com/en/all-operational-amplifiers-op-amps/operational-amplifiers-op-amps/ad8629/products/product.html#product-recommendations
footprint ADI-RM-8_N (SOP, 8-Leads, Body 3x3mm, Pitch 0.65mm, IPC Medium Density)
footprint ADI-RM-8_L (SOP, 8-Leads, Body 3x3mm, Pitch 0.65mm, IPC High Density)
footprint ADI-RM-8_M (SOP, 8-Leads, Body 3x3mm, Pitch 0.65mm, IPC Low Density)
pins on every part: 4 -V (power), 8 +V (power)
part A pins: 1 OUT A (out), 2 -IN A (in), 3 +IN A (in)
part B pins: 5 +IN B (in), 6 -IN B (in), 7 OUT B (out)

## AD8629ARZ
designator U?
Double Channel RRIO Operational Amplifier, 2.5 MHz BW, 1 V/us SR, Industrial, 8-pin SOIC (R-8), Tube; Generic Part Number: AD8629; Manufacturer: Analog Devices; PartNumber: AD8629ARZ; Amplifiers Per Package: 2; Automotive Qualified: Yes; Input Bias Current: 30pA; Input Offset Voltage: 1uV; Iq/Amp: 1.1mA; Slew Rate: 1V/us; Small Signal Bandwidth: 2.5MHz; V Span Max: 6V; V Span Min: 2.7V; DatasheetVersion: Rev. I; PackageVersion: 060506-A; PackageReference: R-8; PackageDescription: 8-Pin Standard Small Outline Package, Body 3.9 x 4.9 mm, Pitch 1.27 mm; Supplier 1: Digi-Key; Supplier Part Number 1: AD8629ARZ-ND; Supplier 2: Farnell; Supplier Part Number 2: 9994300; Supplier 3: Newark; Supplier Part Number 3: 19M0981; Mounting Technology: Surface Mount; Code_JEDEC: MS-012-AA; ComponentLink1Description: Manufacturer URL; ComponentLink1URL: http://www.analog.com/en/index.html; ComponentLink2Description: Datasheet; ComponentLink2URL: http://www.analog.com/static/imported-files/data_sheets/AD8628_8629_8630.pdf; ComponentLink3Description: Package Specification; ComponentLink3URL: http://www.analog.com/static/imported-files/packages/PKG_PDF/SOIC_Narrow%20(R)/R_8.pdf; ComponentLink4Description: Reference Circuit; ComponentLink4URL: http://www.analog.com/en/all-operational-amplifiers-op-amps/operational-amplifiers-op-amps/ad8629/products/product.html#product-recommendations
footprint ADI-R-8_N (SOIC, 8-Leads, Body 4.9x3.9mm, Pitch 1.27mm, IPC Medium Density)
footprint ADI-R-8_L (SOIC, 8-Leads, Body 4.9x3.9mm, Pitch 1.27mm, IPC High Density)
footprint ADI-R-8_M (SOIC, 8-Leads, Body 4.9x3.9mm, Pitch 1.27mm, IPC Low Density)
pins on every part: 4 -V (power), 8 +V (power)
part A pins: 1 OUT A (out), 2 -IN A (in), 3 +IN A (in)
part B pins: 5 +IN B (in), 6 -IN B (in), 7 OUT B (out)

## AD8629ARZ-REEL
designator U?
Double Channel RRIO Operational Amplifier, 2.5 MHz BW, 1 V/us SR, Industrial, 8-pin SOIC (R-8), Reel; Generic Part Number: AD8629; Manufacturer: Analog Devices; PartNumber: AD8629ARZ-REEL; Amplifiers Per Package: 2; Automotive Qualified: Yes; Input Bias Current: 30pA; Input Offset Voltage: 1uV; Iq/Amp: 1.1mA; Slew Rate: 1V/us; Small Signal Bandwidth: 2.5MHz; V Span Max: 6V; V Span Min: 2.7V; DatasheetVersion: Rev. I; PackageVersion: 060506-A; PackageReference: R-8; PackageDescription: 8-Pin Standard Small Outline Package, Body 3.9 x 4.9 mm, Pitch 1.27 mm; Supplier 1: Digi-Key; Supplier Part Number 1: AD8629ARZ-REEL-ND; Supplier 2: Newark; Supplier Part Number 2: 59K7006; Mounting Technology: Surface Mount; Code_JEDEC: MS-012-AA; ComponentLink1Description: Manufacturer URL; ComponentLink1URL: http://www.analog.com/en/index.html; ComponentLink2Description: Datasheet; ComponentLink2URL: http://www.analog.com/static/imported-files/data_sheets/AD8628_8629_8630.pdf; ComponentLink3Description: Package Specification; ComponentLink3URL: http://www.analog.com/static/imported-files/packages/PKG_PDF/SOIC_Narrow%20(R)/R_8.pdf; ComponentLink4Description: Reference Circuit; ComponentLink4URL: http://www.analog.com/en/all-operational-amplifiers-op-amps/operational-amplifiers-op-amps/ad8629/products/product.html#product-recommendations
footprint ADI-R-8_N (SOIC, 8-Leads, Body 4.9x3.9mm, Pitch 1.27mm, IPC Medium Density)
footprint ADI-R-8_L (SOIC, 8-Leads, Body 4.9x3.9mm, Pitch 1.27mm, IPC High Density)
footprint ADI-R-8_M (SOIC, 8-Leads, Body 4.9x3.9mm, Pitch 1.27mm, IPC Low Density)
pins on every part: 4 -V (power), 8 +V (power)
part A pins: 1 OUT A (out), 2 -IN A (in), 3 +IN A (in)
part B pins: 5 +IN B (in), 6 -IN B (in), 7 OUT B (out)

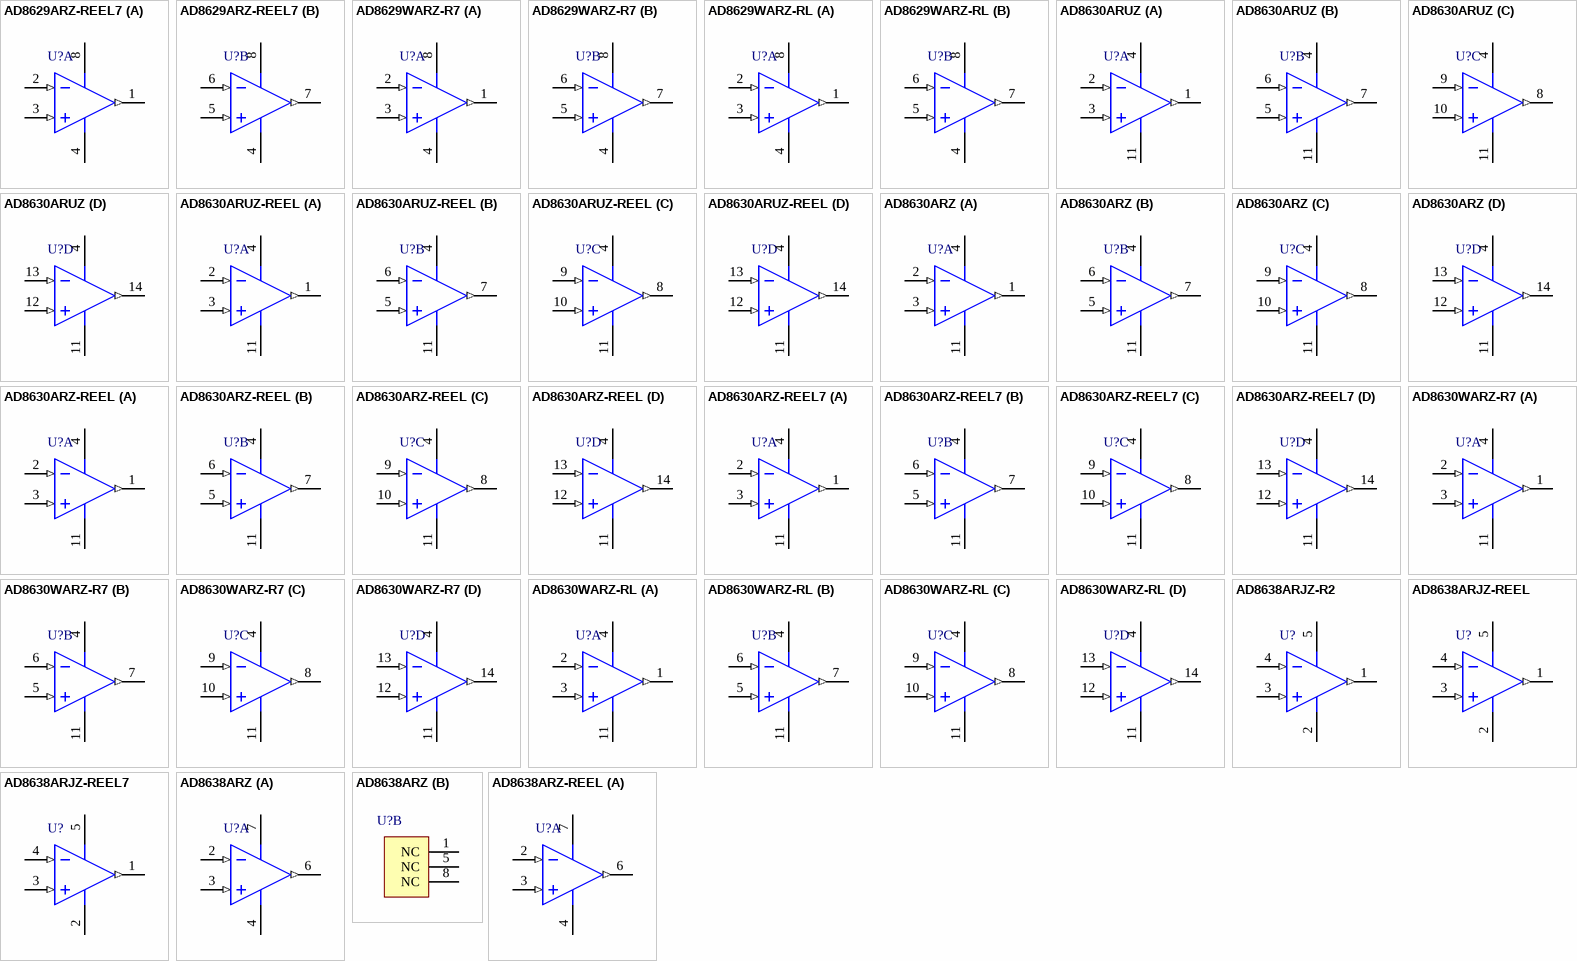
[diagram p57: symbols AD8629ARZ-REEL7 to AD8638ARZ-REEL]

## AD8629ARZ-REEL7
designator U?
Double Channel RRIO Operational Amplifier, 2.5 MHz BW, 1 V/us SR, Industrial, 8-pin SOIC (R-8), Reel; Generic Part Number: AD8629; Manufacturer: Analog Devices; PartNumber: AD8629ARZ-REEL7; Amplifiers Per Package: 2; Automotive Qualified: Yes; Input Bias Current: 30pA; Input Offset Voltage: 1uV; Iq/Amp: 1.1mA; Slew Rate: 1V/us; Small Signal Bandwidth: 2.5MHz; V Span Max: 6V; V Span Min: 2.7V; DatasheetVersion: Rev. I; PackageVersion: 060506-A; PackageReference: R-8; PackageDescription: 8-Pin Standard Small Outline Package, Body 3.9 x 4.9 mm, Pitch 1.27 mm; Supplier 1: Digi-Key; Supplier Part Number 1: AD8629ARZ-REEL7TR-ND; Supplier 2: Digi-Key; Supplier Part Number 2: AD8629ARZ-REEL7CT-ND; Supplier 3: Digi-Key; Supplier Part Number 3: AD8629ARZ-REEL7DKR-ND; Supplier 4: Newark; Supplier Part Number 4: 59K7007; Mounting Technology: Surface Mount; Code_JEDEC: MS-012-AA; ComponentLink1Description: Manufacturer URL; ComponentLink1URL: http://www.analog.com/en/index.html; ComponentLink2Description: Datasheet; ComponentLink2URL: http://www.analog.com/static/imported-files/data_sheets/AD8628_8629_8630.pdf; ComponentLink3Description: Package Specification; ComponentLink3URL: http://www.analog.com/static/imported-files/packages/PKG_PDF/SOIC_Narrow%20(R)/R_8.pdf; ComponentLink4Description: Reference Circuit; ComponentLink4URL: http://www.analog.com/en/all-operational-amplifiers-op-amps/operational-amplifiers-op-amps/ad8629/products/product.html#product-recommendations
footprint ADI-R-8_N (SOIC, 8-Leads, Body 4.9x3.9mm, Pitch 1.27mm, IPC Medium Density)
footprint ADI-R-8_L (SOIC, 8-Leads, Body 4.9x3.9mm, Pitch 1.27mm, IPC High Density)
footprint ADI-R-8_M (SOIC, 8-Leads, Body 4.9x3.9mm, Pitch 1.27mm, IPC Low Density)
pins on every part: 4 -V (power), 8 +V (power)
part A pins: 1 OUT A (out), 2 -IN A (in), 3 +IN A (in)
part B pins: 5 +IN B (in), 6 -IN B (in), 7 OUT B (out)

## AD8629WARZ-R7
designator U?
Double Channel RRIO Operational Amplifier, 2.5 MHz BW, 1 V/us SR, Automotive, 8-pin SOIC (R-8), Reel; Generic Part Number: AD8629; Manufacturer: Analog Devices; PartNumber: AD8629WARZ-R7; Amplifiers Per Package: 2; Automotive Qualified: Yes; Input Bias Current: 30pA; Input Offset Voltage: 1uV; Iq/Amp: 1.1mA; Slew Rate: 1V/us; Small Signal Bandwidth: 2.5MHz; V Span Max: 6V; V Span Min: 2.7V; DatasheetVersion: Rev. I; PackageVersion: 060506-A; PackageReference: R-8; PackageDescription: 8-Pin Standard Small Outline Package, Body 3.9 x 4.9 mm, Pitch 1.27 mm; Supplier 1: Digi-Key; Supplier Part Number 1: AD8629WARZ-R7TR-ND; Supplier 2: Digi-Key; Supplier Part Number 2: AD8629WARZ-R7CT-ND; Supplier 3: Digi-Key; Supplier Part Number 3: AD8629WARZ-R7DKR-ND; Mounting Technology: Surface Mount; Code_JEDEC: MS-012-AA; ComponentLink1Description: Manufacturer URL; ComponentLink1URL: http://www.analog.com/en/index.html; ComponentLink2Description: Datasheet; ComponentLink2URL: http://www.analog.com/static/imported-files/data_sheets/AD8628_8629_8630.pdf; ComponentLink3Description: Package Specification; ComponentLink3URL: http://www.analog.com/static/imported-files/packages/PKG_PDF/SOIC_Narrow%20(R)/R_8.pdf; ComponentLink4Description: Reference Circuit; ComponentLink4URL: http://www.analog.com/en/all-operational-amplifiers-op-amps/operational-amplifiers-op-amps/ad8629/products/product.html#product-recommendations
footprint ADI-R-8_N (SOIC, 8-Leads, Body 4.9x3.9mm, Pitch 1.27mm, IPC Medium Density)
footprint ADI-R-8_L (SOIC, 8-Leads, Body 4.9x3.9mm, Pitch 1.27mm, IPC High Density)
footprint ADI-R-8_M (SOIC, 8-Leads, Body 4.9x3.9mm, Pitch 1.27mm, IPC Low Density)
pins on every part: 4 -V (power), 8 +V (power)
part A pins: 1 OUT A (out), 2 -IN A (in), 3 +IN A (in)
part B pins: 5 +IN B (in), 6 -IN B (in), 7 OUT B (out)